# Altium schematic symbol library 74LVC1G79.SchLib: 1 symbol
Pins are listed as number, name and electrical type; pins without a type are passive.

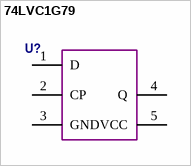
[diagram p0: symbol 74LVC1G79]

## 74LVC1G79
designator U?  (value not drawn)
pins: 1 D, 2 CP, 3 GND, 4 Q, 5 VCC